# EAGLE library part MOSFET_N+P (library _mtvl.transistors)
Dual Mosfet N+P
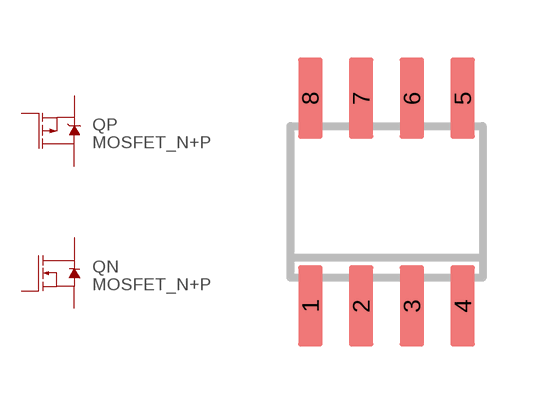
[diagram p8: symbol with the pads of SOIC8; footprint SOIC8]

Designator prefix Q; gates P=PMOS N=NMOS

## MOSFET_N+P  [SOIC8]
1  N:S
2  N:G
3  P:S
4  P:G
5  P:D
6  P:D
7  N:D
8  N:D

## Footprint SOIC8 (pad centres in mm)
Small Outline IC
smd 0.61 x 2.032: 1 -1.905,-2.6; 2 -0.635,-2.6; 3 0.635,-2.6; 4 1.905,-2.6; 5 1.905,2.6; 6 0.635,2.6; 7 -0.635,2.6; 8 -1.905,2.6